# Altium footprint library Symbol.PcbLib: 206 footprints (part 13 of 15)
Each footprint in its own frame and in the unit in brackets; x right, y up, seen from the top. Pads: shape width x height; smd on the part's side, far side on the other; paste and mask are expansions set on the pad; w line width, h text height; cw(c..) or ccw(c..) is an arc to the next point about the centre after c.
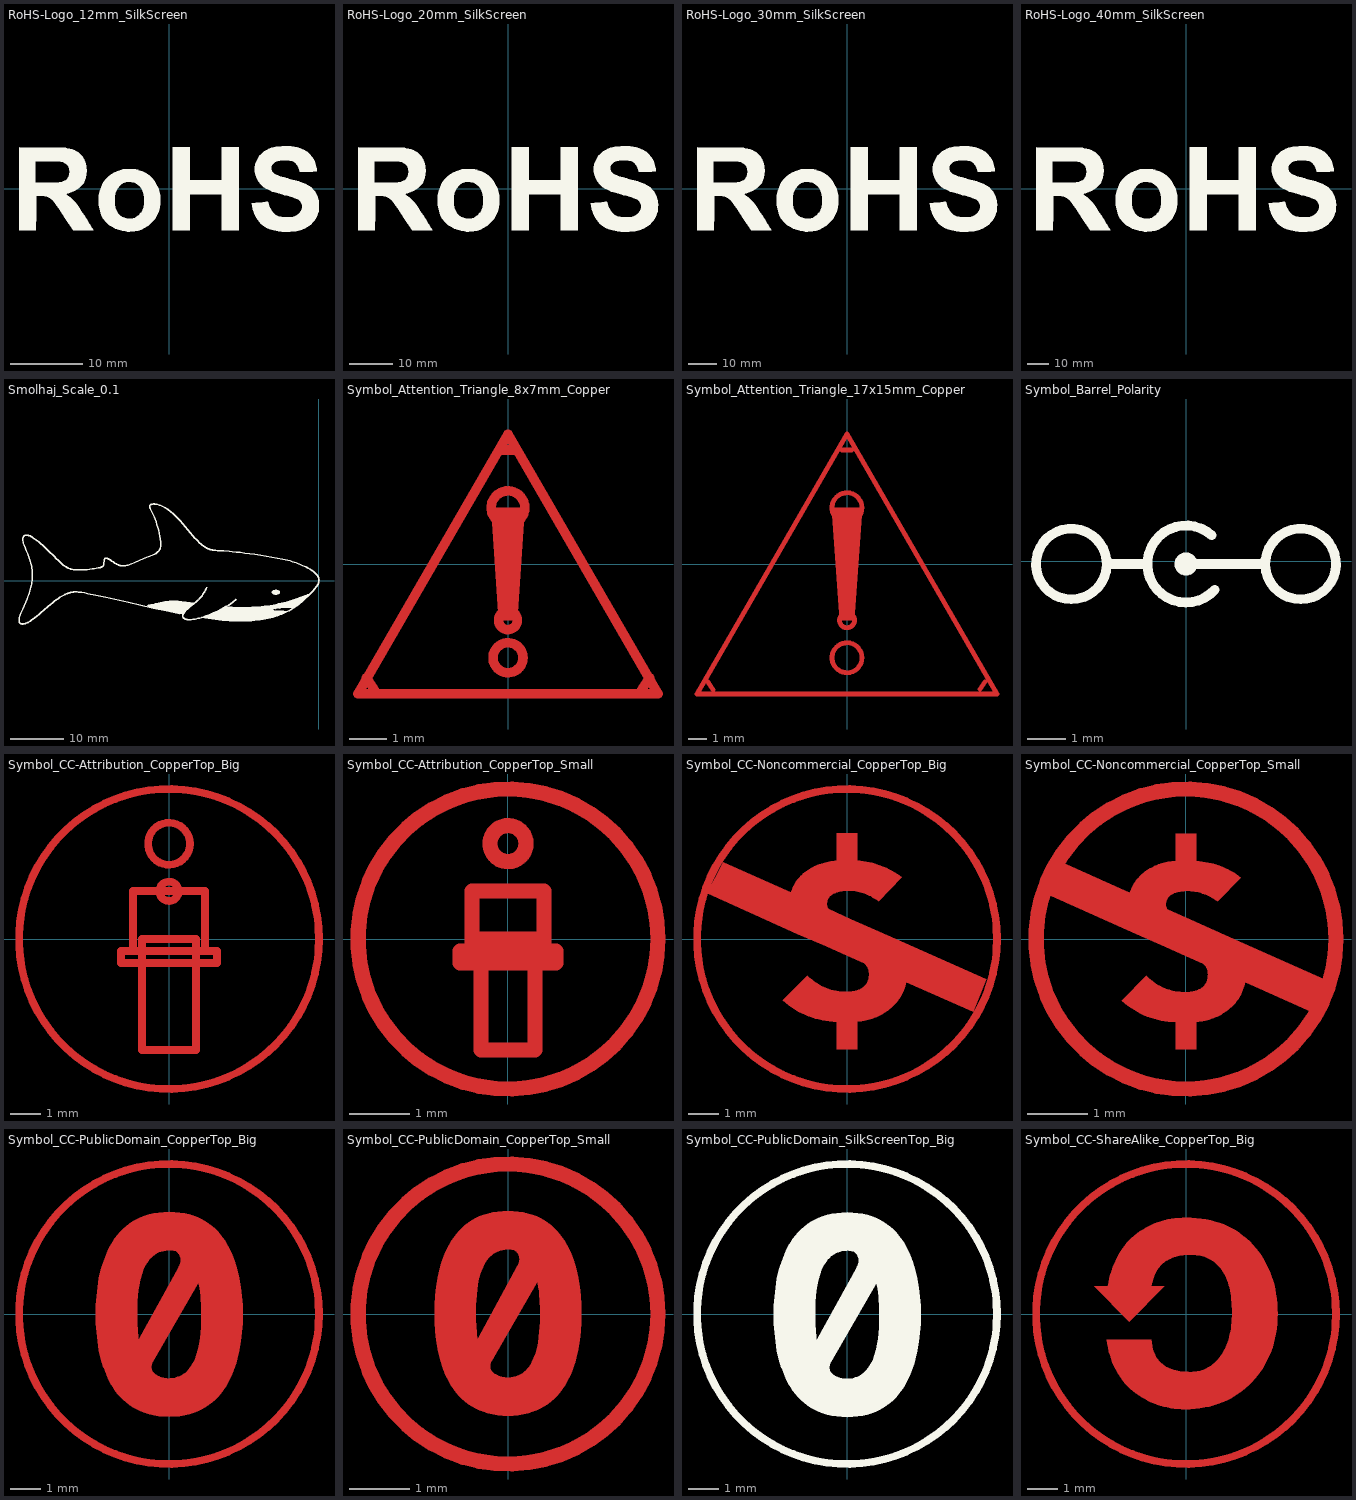
[diagram p12: the footprints below, top view; thin cyan lines are the x and y axes]

## RoHS-Logo_12mm_SilkScreen [mm]
F.SilkS:
  drawing of 4 lines, arcs and shapes, not listed

## RoHS-Logo_20mm_SilkScreen [mm]
F.SilkS:
  drawing of 4 lines, arcs and shapes, not listed

## RoHS-Logo_30mm_SilkScreen [mm]
F.SilkS:
  drawing of 4 lines, arcs and shapes, not listed

## RoHS-Logo_40mm_SilkScreen [mm]
F.SilkS:
  drawing of 4 lines, arcs and shapes, not listed

## Smolhaj_Scale_0.1 [mm]
F.SilkS:
  drawing of 597 lines, arcs and shapes, not listed
F.Fab:
  text "'.Designator'" at -16.047,-0.59 h1

## Symbol_Attention_Triangle_8x7mm_Copper [mm]
F.Cu:
  circle w0.254: c0,1.5 r0.45
  circle w0.254: c0,-1.5 r0.25
  circle w0.254: c0,-2.5 r0.4
  region: 0.25,-1.5 -0.25,-1.5 -0.45,1.5 0.45,1.5
  lines w0.254: -3.776,-3.031 -3.51,-3.44 ; -0.15,3.04 0.16,3.04 ; 3.51,-3.44 3.776,-3.031 ; -4,-3.46 0,3.46 4,-3.46 -4,-3.46

## Symbol_Attention_Triangle_17x15mm_Copper [mm]
F.Cu:
  circle w0.254: c0,3 r0.8
  circle w0.254: c0,-3 r0.4
  circle w0.254: c0,-5 r0.8
  region: 0.4,-3 -0.4,-3 -0.8,3 0.8,3
  lines w0.254: -7.403,-6.295 -7.137,-6.705 ; -0.27,6.08 0.25,6.08 ; 7.097,-6.685 7.363,-6.275 ; 7.55,-6.15 8,-6.93 ; 8,-6.93 -8,-6.93 0,6.93 8,-6.93

## Symbol_Barrel_Polarity [mm]
F.SilkS:
  circle w0.254: c-3,-0.075 r0.925
  circle w0.254: c0,-0.075 r0.175
  circle w0.254: c3,-0.075 r0.925
  lines w0.254: -2,-0.075 -1.1,-0.075 ; 0,-0.075 2,-0.075 ; 0.675,0.675 ccw(c0,-0.075) 0.75,-0.75

## Symbol_CC-Attribution_CopperTop_Big [mm]
F.Cu:
  circle w0.254: c0,3.175 r0.7
  circle w0.254: c0,1.59 r0.322
  circle w0.254: c0,0 r5
  lines w0.254: -1.6,-0.8 -1.6,-0.4 1.6,-0.4 1.6,-0.8 -1.6,-0.8 ; -1.2,-0.4 -1.2,1.6 1.2,1.6 1.2,-0.4 -1.2,-0.4 ; -0.9,-3.7 -0.9,0 0.9,0 0.9,-3.7 -0.9,-3.7

## Symbol_CC-Attribution_CopperTop_Small [mm]
F.Cu:
  circle w0.254: c0,1.59 r0.3
  circle w0.254: c0.001,0 r2.5
  lines w0.254: -0.8,-0.4 -0.8,-0.2 0.8,-0.2 0.8,-0.4 -0.8,-0.4 ; -0.6,-0.2 -0.6,0.8 0.6,0.8 0.6,-0.2 -0.6,-0.2 ; -0.45,-1.85 -0.45,0 0.45,0 0.45,-1.85 -0.45,-1.85

## Symbol_CC-Noncommercial_CopperTop_Big [mm]
F.Cu:
  circle w0.254: c0,0 r5
  region: 271 vertices and 0 holes, not listed, extent -4.662,-3.667 4.641,3.519

## Symbol_CC-Noncommercial_CopperTop_Small [mm]
F.Cu:
  circle w0.254: c0.001,0 r2.5
  region: 271 vertices and 0 holes, not listed, extent -2.331,-1.839 2.32,1.754

## Symbol_CC-PublicDomain_CopperTop_Big [mm]
F.Cu:
  circle w0.254: c0,0 r5
  region: 106 vertices and 2 holes, not listed, extent -2.441,-3.422 2.456,3.402

## Symbol_CC-PublicDomain_CopperTop_Small [mm]
F.Cu:
  circle w0.254: c0,0 r2.5
  region: 106 vertices and 2 holes, not listed, extent -1.224,-1.696 1.224,1.716

## Symbol_CC-PublicDomain_SilkScreenTop_Big [mm]
F.SilkS:
  circle w0.254: c0,0 r5
  region: 106 vertices and 2 holes, not listed, extent -2.441,-3.436 2.456,3.387

## Symbol_CC-ShareAlike_CopperTop_Big [mm]
F.Cu:
  circle w0.254: c0,0 r5
  region: 256 vertices and 0 holes, not listed, extent -3.066,-3.172 3.05,3.209